# Altium schematic symbol library IC-DataConvert.SchLib: 5 symbols
Pins are listed as number, name and electrical type; pins without a type are passive.

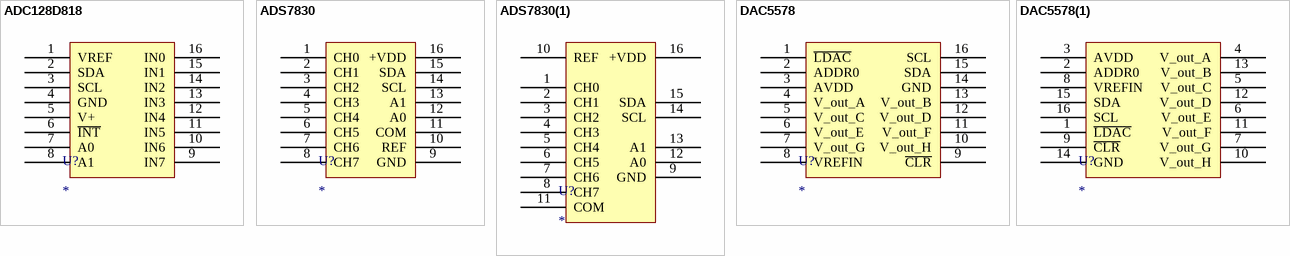
[diagram p0: symbols ADC128D818 to DAC5578(1)]

## ADC128D818
designator U?
footprint TSSOP-16
pins: 1 VREF, 2 SDA, 3 SCL, 4 GND, 5 V+, 6 ~{INT}, 7 A0, 8 A1, 9 IN7, 10 IN6, 11 IN5, 12 IN4, 13 IN3, 14 IN2, 15 IN1, 16 IN0

## ADS7830
designator U?
footprint TSSOP-16
pins: 1 CH0, 2 CH1, 3 CH2, 4 CH3, 5 CH4, 6 CH5, 7 CH6, 8 CH7, 9 GND, 10 REF, 11 COM, 12 A0, 13 A1, 14 SCL, 15 SDA, 16 +VDD

## ADS7830(1)
designator U?
footprint TSSOP-16
pins: 1 CH0, 2 CH1, 3 CH2, 4 CH3, 5 CH4, 6 CH5, 7 CH6, 8 CH7, 9 GND, 10 REF, 11 COM, 12 A0, 13 A1, 14 SCL, 15 SDA, 16 +VDD

## DAC5578
designator U?
footprint TSSOP-16
pins: 1 ~{LDAC}, 2 ADDR0, 3 AVDD, 4 V_out_A, 5 V_out_C, 6 V_out_E, 7 V_out_G, 8 VREFIN, 9 ~{CLR}, 10 V_out_H, 11 V_out_F, 12 V_out_D, 13 V_out_B, 14 GND, 15 SDA, 16 SCL

## DAC5578(1)
designator U?
footprint TSSOP-16
pins: 1 ~{LDAC}, 2 ADDR0, 3 AVDD, 4 V_out_A, 5 V_out_C, 6 V_out_E, 7 V_out_G, 8 VREFIN, 9 ~{CLR}, 10 V_out_H, 11 V_out_F, 12 V_out_D, 13 V_out_B, 14 GND, 15 SDA, 16 SCL